# Altium schematic symbol library M25P128.SchLib: 2 symbols
Pins are listed as number, name and electrical type; pins without a type are passive.

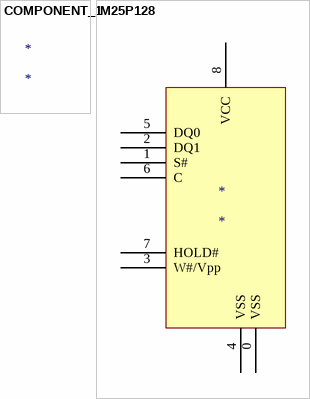
[diagram p0: symbols COMPONENT_1 to M25P128]

## COMPONENT_1
designator *

## M25P128
designator *
pins: 0 VSS, 1 S#, 2 DQ1, 3 W#/Vpp, 4 VSS, 5 DQ0, 6 C, 7 HOLD#, 8 VCC